# EAGLE library part 74LVC1G157GW,125 (library RoboJackets-ICs)
74LVC1G157GW,125 2:1 MUX_74LVC1G157GV Datasheet <https://assets.nexperia.com/documents/data-sheet/74LVC1G157.pdf>
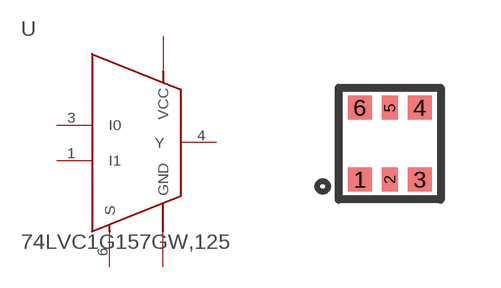
[diagram p31: symbol with the pads of TSSOP6; footprint TSSOP6]

Designator prefix U

## 74LVC1G157GW,125 (DKPN: 1727-3491-1-ND)  [TSSOP6]
1  I1  pas
2  GND  pas
3  I0  pas
4  Y  pas
5  V  pas
6  S  pas

## Footprint TSSOP6 (pad centres in mm)
Datasheet <https://assets.nexperia.com/documents/data-sheet/74LVC1G157.pdf>
smd 0.6 x 0.6: 1 -0.75,-0.9; 3 0.75,-0.9; 4 0.75,0.9; 6 -0.75,0.9
smd 0.4 x 0.6: 2 0,-0.9; 5 0,0.9